# EAGLE library part MRF24WG0M-NC (library PonLib)
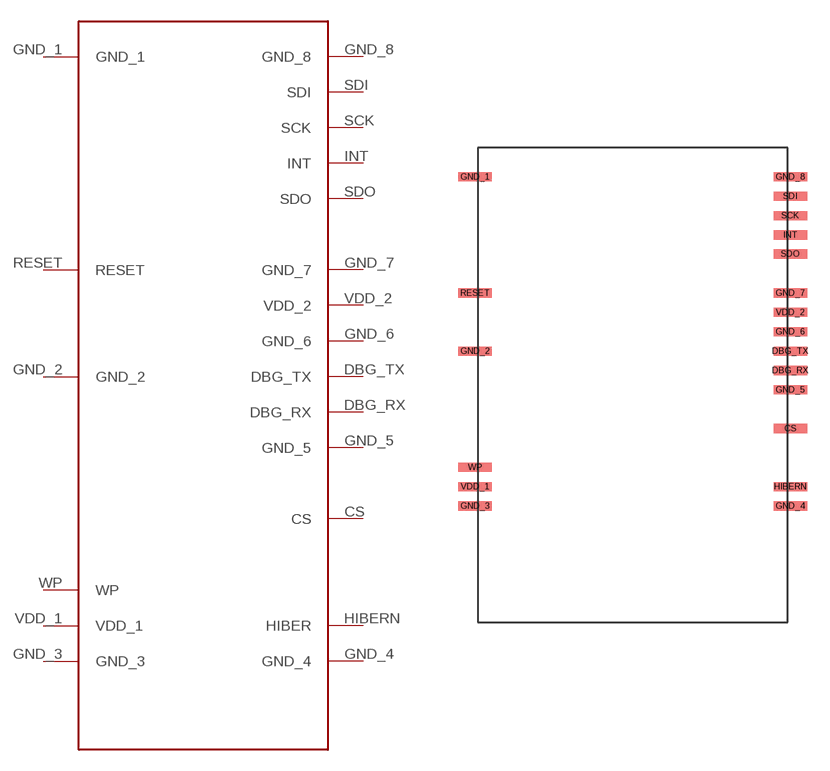
[diagram p13: symbol with the pads of MRF24WG0M-NC; footprint MRF24WG0M-NC]

Designator prefix -

## MRF24WG0M-NC  [MRF24WG0M-NC]
CS  CS
DBG_RX  DBG_RX
DBG_TX  DBG_TX
GND_1  GND_1
GND_2  GND_2
GND_3  GND_3
GND_4  GND_4
GND_5  GND_5
GND_6  GND_6
GND_7  GND_7
GND_8  GND_8
HIBERN  HIBER
INT  INT
RESET  RESET
SCK  SCK
SDI  SDI
SDO  SDO
VDD_1  VDD_1
VDD_2  VDD_2
WP  WP

## Footprint MRF24WG0M-NC (pad centres in mm)
smd 2.2 x 0.6: CS 10.338,-5.715; DBG_RX 10.338,-1.905; DBG_TX 10.338,-0.635; GND_1 -10.338,10.795; GND_2 -10.338,-0.635; GND_3 -10.338,-10.795; GND_4 10.338,-10.795; GND_5 10.338,-3.175; GND_6 10.338,0.635; GND_7 10.338,3.175; GND_8 10.338,10.795; HIBERN 10.338,-9.525; INT 10.338,6.985; RESET -10.338,3.175; SCK 10.338,8.255; SDI 10.338,9.525; SDO 10.338,5.74; VDD_1 -10.338,-9.525; VDD_2 10.338,1.905; WP -10.338,-8.255